# Altium footprint library CornellBajaLibrary.PcbLib: 100 footprints (part 5 of 7)
Each footprint in its own frame and in the unit in brackets; x right, y up, seen from the top. Pads: shape width x height; smd on the part's side, far side on the other; paste and mask are expansions set on the pad; w line width, h text height; cw(c..) or ccw(c..) is an arc to the next point about the centre after c.
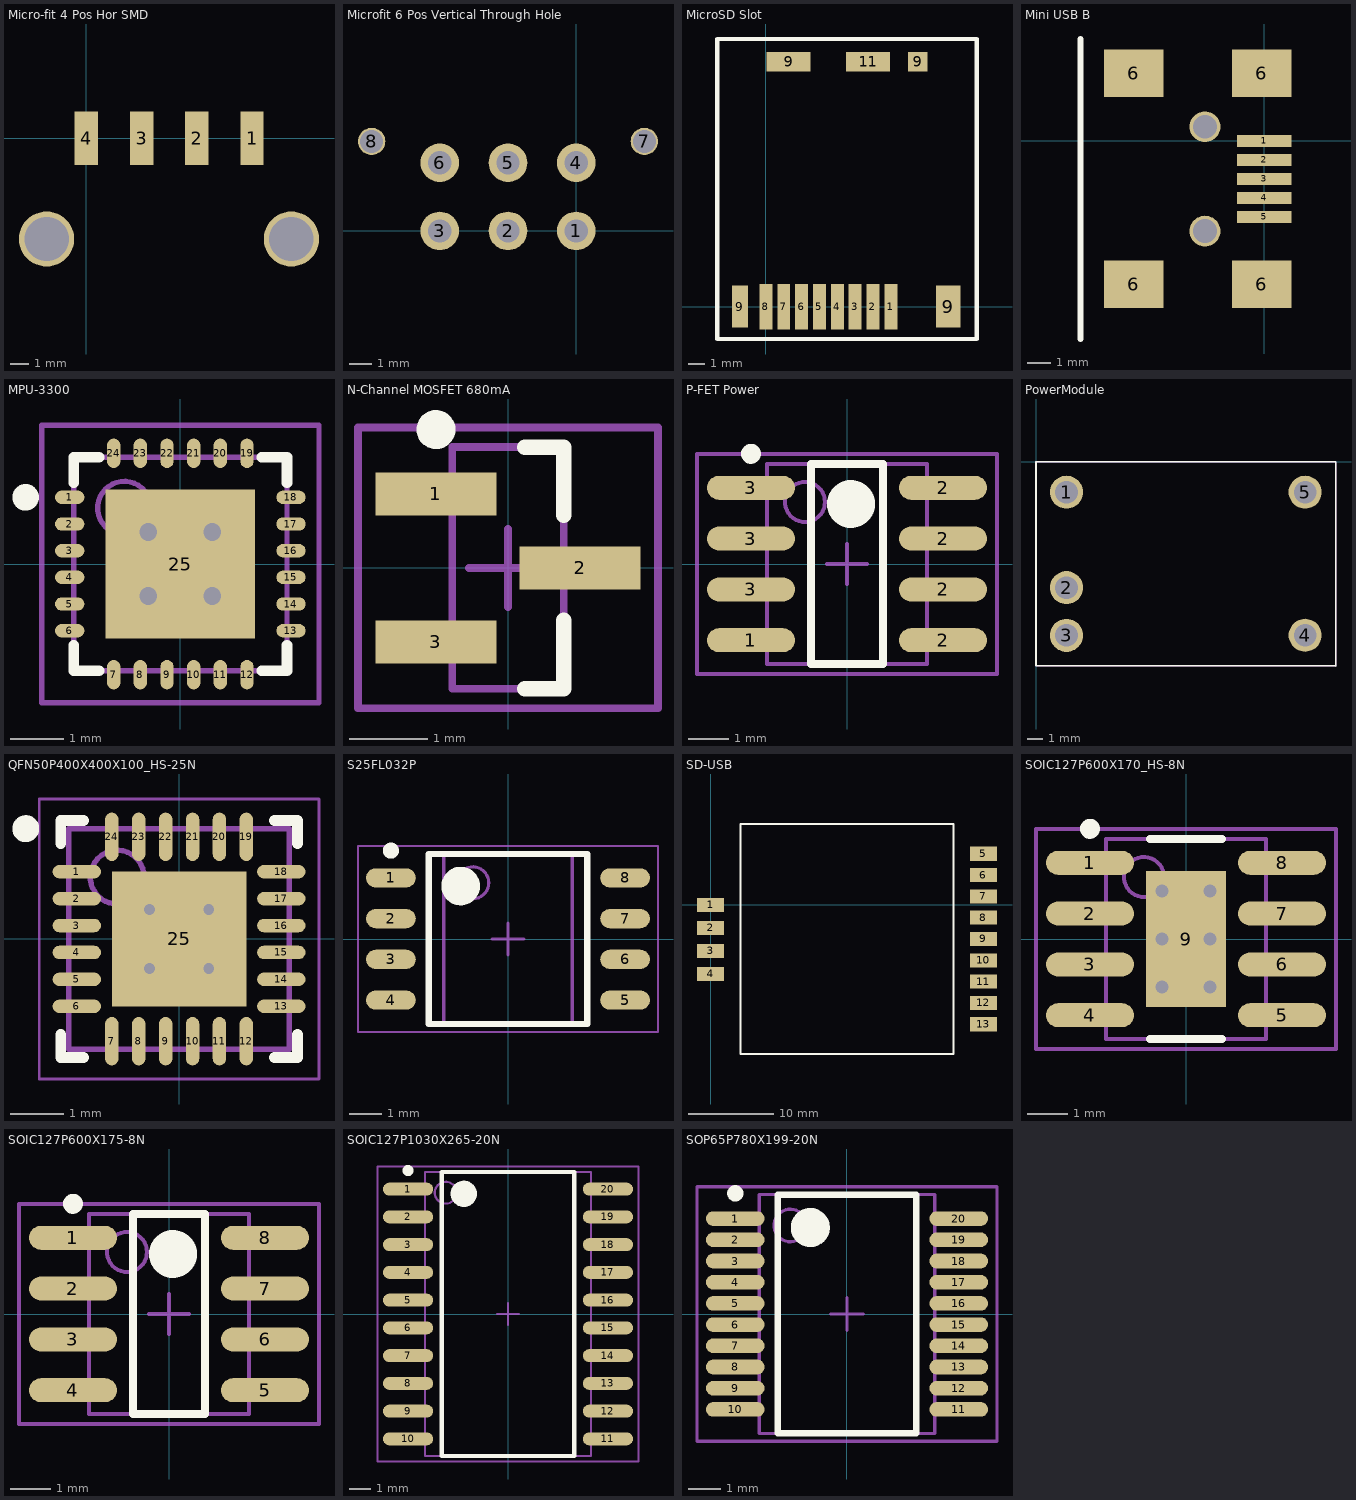
[diagram p4: the footprints below, top view; thin cyan lines are the x and y axes]

## Micro-fit 4 Pos Hor SMD [mm]
pads (6):
  rect 1.27x2.92 smd: 1(9,0) 2(6,0) 3(3,0) 4(0,0)
  round 3 hole 2.41: ""(-2.16,-5.47) ""(11.14,-5.47)
3D body: height 5.73, standoff -1.87, extent -3.225,-10.05 12.425,0.69

## Microfit 6 Pos Vertical Through Hole [mm]
pads (8):
  round 1.7 hole 1.02: 1(0,0) 2(-3,0) 3(-6,0) 4(0,3) 5(-3,3) 6(-6,3)
  round 1.2 hole 1.02: 7(3,3.94) 8(-9,3.94)
3D body: height 10.05, standoff -3.04, extent -9.575,-2.47 3.575,6.3

## MicroSD Slot [mm] "DM3CS-SF"
height 2
pads (13):
  rect 0.8x2.8 smd: 1(7.7,0) 2(6.6,0) 3(5.5,0) 4(4.4,0) 5(3.3,0) 6(2.2,0) 7(1.1,0) 8(0,0)
  rect 1x2.6 smd: 9(-1.6,0)
  rect 2.7x1.2 smd: 9(1.4,15.1) 11(6.3,15.1)
  rect 1.2x1.2 smd: 9(9.35,15.1)
  rect 1.5x2.6 smd: 9(11.25,0)
Top Overlay:
  lines w0.254: -3,-2 13,-2 13,16.5 -3,16.5 -3,-2
3D body: height 2, standoff 0, extent -3,-2 13,16.5

## Mini USB B [mm]
height 4
pads (11):
  rect 2.3x0.5 smd: 1(0,0) 2(0,-0.8) 3(0,-1.6) 4(0,-2.4) 5(0,-3.2)
  rect 2.5x2 smd: 6(-5.5,-6.05) 6(-5.5,2.85) 6(-0.1,-6.05) 6(-0.1,2.85)
  round 1.3 hole 1: ""(-2.5,-3.8) ""(-2.5,0.6)
Top Overlay:
  lines w0.254: -7.75,-8.35 -7.75,-2.525 -7.75,4.3
3D body: height 4.14, standoff -0.95, extent -8.375,-6.598 0.825,3.302

## MPU-3300 [mm] "QFN, 24-Leads, Body 4.0x4.0mm (max), Pitch 0.50mm, IPC Medium Density"
height 0.8
pads (25):
  oval 0.55x0.25 smd: 1(-2.075,1.25) 2(-2.075,0.75) 3(-2.075,0.25) 4(-2.075,-0.25) 5(-2.075,-0.75) 6(-2.075,-1.25) 13(2.075,-1.25) 14(2.075,-0.75) 15(2.075,-0.25) 16(2.075,0.25) 17(2.075,0.75) 18(2.075,1.25)
  oval 0.25x0.55 smd: 7(-1.25,-2.075) 8(-0.75,-2.075) 9(-0.25,-2.075) 10(0.25,-2.075) 11(0.75,-2.075) 12(1.25,-2.075) 19(1.25,2.075) 20(0.75,2.075) 21(0.25,2.075) 22(-0.25,2.075) 23(-0.75,2.075) 24(-1.25,2.075)
  rect 2.8x2.8 smd: 25(0,0)
via -0.6,0.6 diameter 0.66 hole 0.33
via 0.6,0.6 diameter 0.66 hole 0.33
via -0.6,-0.6 diameter 0.66 hole 0.33
via 0.6,-0.6 diameter 0.66 hole 0.33
Top Overlay:
  circle w0.25: c-2.9,1.25 r0.125
  lines w0.2: -2,-1.525 -2,-2 -1.525,-2 ; -2,1.525 -2,2 -1.525,2 ; 1.525,-2 2,-2 2,-1.525 ; 1.525,2 2,2 2,1.525
Mechanical 13:
  circle w0.1: c-1.05,1.05 r0.5
  lines w0.1: -2,-2 -2,2 2,2 2,-2 -2,-2
Mechanical 15:
  lines w0.1: -0.5,0 0.5,0 ; 0,-0.5 0,0.5 ; -2.6,-2.6 -2.6,2.6 2.6,2.6 2.6,-2.6 -2.6,-2.6
3D body: height 0.8, standoff 0.01, extent -2,-2 2,2

## N-Channel MOSFET 680mA [mm] "FDV303N"
height 1.15
pads (3):
  rect 1.55x0.55 smd: 1(-0.925,0.95) 2(0.925,0) 3(-0.925,-0.95)
Top Overlay:
  circle w0.25: c-0.925,1.775 r0.125
  lines w0.2: 0.215,-1.55 0.715,-1.55 0.715,-0.675 ; 0.215,1.55 0.715,1.55 0.715,0.675
Mechanical 13:
  lines w0.1: -0.715,-1.55 0.715,-1.55 0.715,1.55 -0.715,1.55 -0.715,-1.55
Mechanical 15:
  lines w0.1: -0.5,0 0.5,0 ; 0,-0.5 0,0.5 ; -1.925,-1.8 1.925,-1.8 1.925,1.8 -1.925,1.8 -1.925,-1.8
3D body: height 1.15, standoff 0.05, extent -0.715,-1.55 0.715,1.55

## P-FET Power [mm] "STS5PF30L 5A"
height 1.75
pads (8):
  oval 2.2x0.6 smd: 1(-2.4,-1.905) 2(2.4,-1.905) 2(2.4,-0.635) 2(2.4,0.635) 2(2.4,1.905) 3(-2.4,-0.635) 3(-2.4,0.635) 3(-2.4,1.905)
Top Overlay:
  circle w0.6: c0.1,1.5 r0.3
  circle w0.25: c-2.4,2.755 r0.125
  lines w0.2: -0.9,-2.5 0.9,-2.5 0.9,2.5 -0.9,2.5 -0.9,-2.5
Mechanical 13:
  circle w0.1: c-1.05,1.55 r0.5
  lines w0.1: -2,-2.5 2,-2.5 2,2.5 -2,2.5 -2,-2.5
Mechanical 15:
  lines w0.1: -0.5,0 0.5,0 ; 0,-0.5 0,0.5 ; -3.75,-2.75 3.75,-2.75 3.75,2.75 -3.75,2.75 -3.75,-2.75
3D body: height 1.75, standoff 0.1, extent -2,-2.5 2,2.5

## PCBComponent_1 [mm]

## PowerModule [mm]
height 8.5
pads (5):
  round 2.2 hole 1.5: 1(2.03,-2.03) 2(2.03,-8.38) 3(2.03,-11.56) 4(17.91,-11.55) 5(17.91,-2.03)
Top Overlay:
  lines w0.1: 19.939,-13.615 19.939,-0.025 ; 19.94,-13.59 0,-13.59 0,0 19.94,0
Mechanical 13:
  lines w0.1: 0,-13.59 0,0 19.94,0 ; 0.025,-13.59 19.965,-13.59 ; 19.939,-13.59 19.939,0
3D body: height 8.5, standoff 0.08, extent 0,-13.59 19.939,0

## QFN50P400X400X100_HS-25N [mm] "QFN, 24-Leads, Body 4.00x4.00mm, Pitch 0.50mm, Thermal Pad 2.50x2.50mm, IPC Medium Density"
height 1
pads (25):
  oval 0.9x0.25 smd: 1(-1.9,1.25) 2(-1.9,0.75) 3(-1.9,0.25) 4(-1.9,-0.25) 5(-1.9,-0.75) 6(-1.9,-1.25) 13(1.9,-1.25) 14(1.9,-0.75) 15(1.9,-0.25) 16(1.9,0.25) 17(1.9,0.75) 18(1.9,1.25)
  oval 0.25x0.9 smd: 7(-1.25,-1.9) 8(-0.75,-1.9) 9(-0.25,-1.9) 10(0.25,-1.9) 11(0.75,-1.9) 12(1.25,-1.9) 19(1.25,1.9) 20(0.75,1.9) 21(0.25,1.9) 22(-0.25,1.9) 23(-0.75,1.9) 24(-1.25,1.9)
  rect 2.5x2.5 smd: 25(0,0)
via -0.55,0.55 diameter 0.5 hole 0.2
via 0.55,0.55 diameter 0.5 hole 0.2
via -0.55,-0.55 diameter 0.5 hole 0.2
via 0.55,-0.55 diameter 0.5 hole 0.2
Top Overlay:
  circle w0.25: c-2.85,2.05 r0.125
  lines w0.2: -2.2,-1.775 -2.2,-2.2 -1.775,-2.2 ; -2.2,1.775 -2.2,2.2 -1.775,2.2 ; 1.775,-2.2 2.2,-2.2 2.2,-1.775 ; 1.775,2.2 2.2,2.2 2.2,1.775
Mechanical 13:
  circle w0.1: c-1.15,1.15 r0.5
  lines w0.1: -2.05,-2.05 -2.05,2.05 2.05,2.05 2.05,-2.05 -2.05,-2.05
Mechanical 15:
  lines w0.05: -2.6,-2.6 -2.6,2.6 2.6,2.6 2.6,-2.6 -2.6,-2.6
  lines w0.1: -0.5,0 0.5,0 ; 0,-0.5 0,0.5
3D body: height 1, standoff 0, extent -2.05,-2.05 2.05,2.05

## S25FL032P [mm] "SOIC, 8-Leads, Body 5.28x4.64mm, Pitch 1.27mm, IPC Medium Density"
height 2.15
pads (8):
  oval 1.55x0.6 smd: 1(-3.65,1.905) 2(-3.65,0.635) 3(-3.65,-0.635) 4(-3.65,-1.905) 5(3.65,-1.905) 6(3.65,-0.635) 7(3.65,0.635) 8(3.65,1.905)
Top Overlay:
  circle w0.6: c-1.475,1.65 r0.3
  circle w0.25: c-3.65,2.755 r0.125
  lines w0.2: -2.475,-2.65 2.475,-2.65 2.475,2.65 -2.475,2.65 -2.475,-2.65
Mechanical 13:
  circle w0.1: c-1.1,1.75 r0.5
  lines w0.1: -2,-2.65 2,-2.65 2,2.65 -2,2.65 -2,-2.65
Mechanical 15:
  lines w0.05: -4.675,-2.9 4.675,-2.9 4.675,2.9 -4.675,2.9 -4.675,-2.9
  lines w0.1: -0.5,0 0.5,0 ; 0,-0.5 0,0.5
3D body: height 2.15, standoff 0.05, extent -2,-2.65 2,2.65

## SD-USB [mm]
pads (13):
  rect 3.175x1.651 smd: 1(0,0) 2(0,-2.7) 3(0,-5.4) 4(0,-8.1) 5(32,6) 6(32,3.5) 7(32,1) 8(32,-1.5) 9(32,-4) 10(32,-6.5) 11(32,-9) 12(32,-11.5) 13(32,-14)
Top Overlay:
  lines w0.254: 3.5,-17.5 28.5,-17.5 28.5,9.5 3.5,9.5 3.5,-17.5
3D body: height 5, standoff 0.5, extent 3.5,-17.5 28.5,9.5

## SOIC127P600X170_HS-8N [mm] "SOIC, 8-Leads, Body 5.0x4.0mm (max), Pitch 1.27mm, IPC Medium Density"
height 1.7
pads (9):
  oval 2.2x0.6 smd: 1(-2.4,1.905) 2(-2.4,0.635) 3(-2.4,-0.635) 4(-2.4,-1.905) 5(2.4,-1.905) 6(2.4,-0.635) 7(2.4,0.635) 8(2.4,1.905)
  rect 2x3.4 smd: 9(0,0)
via -0.6,1.2 diameter 0.66 hole 0.33
via 0.6,1.2 diameter 0.66 hole 0.33
via -0.6,0 diameter 0.66 hole 0.33
via 0.6,0 diameter 0.66 hole 0.33
via -0.6,-1.2 diameter 0.66 hole 0.33
via 0.6,-1.2 diameter 0.66 hole 0.33
Top Overlay:
  circle w0.25: c-2.4,2.755 r0.125
  lines w0.2: -0.9,-2.5 0.9,-2.5 ; -0.9,2.5 0.9,2.5
Mechanical 13:
  circle w0.1: c-1.05,1.55 r0.5
  lines w0.1: -2,-2.5 -2,2.5 2,2.5 2,-2.5 -2,-2.5
Mechanical 15:
  lines w0.1: -0.5,0 0.5,0 ; 0,-0.5 0,0.5 ; -3.75,-2.75 -3.75,2.75 3.75,2.75 3.75,-2.75 -3.75,-2.75
3D body: height 1.7, standoff 0.25, extent -2,-2.5 2,2.5

## SOIC127P600X175-8N [mm] "SOIC, 8-Leads, Body 5.0x4.0mm (max), Pitch 1.27mm, IPC Medium Density"
height 1.75
pads (8):
  oval 2.2x0.6 smd: 1(-2.4,1.905) 2(-2.4,0.635) 3(-2.4,-0.635) 4(-2.4,-1.905) 5(2.4,-1.905) 6(2.4,-0.635) 7(2.4,0.635) 8(2.4,1.905)
Top Overlay:
  circle w0.6: c0.1,1.5 r0.3
  circle w0.25: c-2.4,2.755 r0.125
  lines w0.2: -0.9,-2.5 0.9,-2.5 0.9,2.5 -0.9,2.5 -0.9,-2.5
Mechanical 13:
  circle w0.1: c-1.05,1.55 r0.5
  lines w0.1: -2,-2.5 2,-2.5 2,2.5 -2,2.5 -2,-2.5
Mechanical 15:
  lines w0.1: -0.5,0 0.5,0 ; 0,-0.5 0,0.5 ; -3.75,-2.75 3.75,-2.75 3.75,2.75 -3.75,2.75 -3.75,-2.75
3D body: height 1.75, standoff 0.25, extent -2,-2.5 2,2.5

## SOIC127P1030X265-20N [mm] "SOIC, 20-Leads, Body 13.0x7.6mm (max), Pitch 1.27mm, IPC Medium Density"
height 2.65
pads (20):
  oval 2.3x0.6 smd: 1(-4.575,5.715) 2(-4.575,4.445) 3(-4.575,3.175) 4(-4.575,1.905) 5(-4.575,0.635) 6(-4.575,-0.635) 7(-4.575,-1.905) 8(-4.575,-3.175) 9(-4.575,-4.445) 10(-4.575,-5.715) 11(4.575,-5.715) 12(4.575,-4.445) 13(4.575,-3.175) 14(4.575,-1.905) 15(4.575,-0.635) 16(4.575,0.635) 17(4.575,1.905) 18(4.575,3.175) 19(4.575,4.445) 20(4.575,5.715)
Top Overlay:
  circle w0.25: c-4.575,6.565 r0.125
  circle w0.6: c-2.025,5.5 r0.3
  lines w0.2: -3.025,-6.5 -3.025,6.5 3.025,6.5 3.025,-6.5 -3.025,-6.5
Mechanical 13:
  circle w0.1: c-2.85,5.55 r0.5
  lines w0.1: -3.8,-6.5 -3.8,6.5 3.8,6.5 3.8,-6.5 -3.8,-6.5
Mechanical 15:
  lines w0.1: -0.5,0 0.5,0 ; 0,-0.5 0,0.5 ; -5.975,-6.75 -5.975,6.75 5.975,6.75 5.975,-6.75 -5.975,-6.75
3D body: height 2.65, standoff 0.3, extent -3.8,-6.5 3.8,6.5

## SOP65P780X199-20N [mm] "SOP, 20-Leads, Body 7.3x5.4mm (max), Pitch 0.65mm, IPC Medium Density"
height 1.99
pads (20):
  oval 1.8x0.45 smd: 1(-3.425,2.925) 2(-3.425,2.275) 3(-3.425,1.625) 4(-3.425,0.975) 5(-3.425,0.325) 6(-3.425,-0.325) 7(-3.425,-0.975) 8(-3.425,-1.625) 9(-3.425,-2.275) 10(-3.425,-2.925) 11(3.425,-2.925) 12(3.425,-2.275) 13(3.425,-1.625) 14(3.425,-0.975) 15(3.425,-0.325) 16(3.425,0.325) 17(3.425,0.975) 18(3.425,1.625) 19(3.425,2.275) 20(3.425,2.925)
Top Overlay:
  circle w0.6: c-1.125,2.65 r0.3
  circle w0.25: c-3.425,3.7 r0.125
  lines w0.2: -2.125,-3.65 2.125,-3.65 2.125,3.65 -2.125,3.65 -2.125,-3.65
Mechanical 13:
  circle w0.1: c-1.74,2.715 r0.5
  lines w0.1: -2.69,-3.665 2.69,-3.665 2.69,3.665 -2.69,3.665 -2.69,-3.665
Mechanical 15:
  lines w0.1: -0.5,0 0.5,0 ; 0,-0.5 0,0.5 ; -4.6,-3.9 4.6,-3.9 4.6,3.9 -4.6,3.9 -4.6,-3.9
3D body: height 1.99, standoff 0.05, extent -2.69,-3.665 2.69,3.665